# Altium footprint library Switches.PcbLib: 4 footprints
Each footprint in its own frame and in the unit in brackets; x right, y up, seen from the top. Pads: shape width x height; smd on the part's side, far side on the other; paste and mask are expansions set on the pad; w line width, h text height; cw(c..) or ccw(c..) is an arc to the next point about the centre after c.
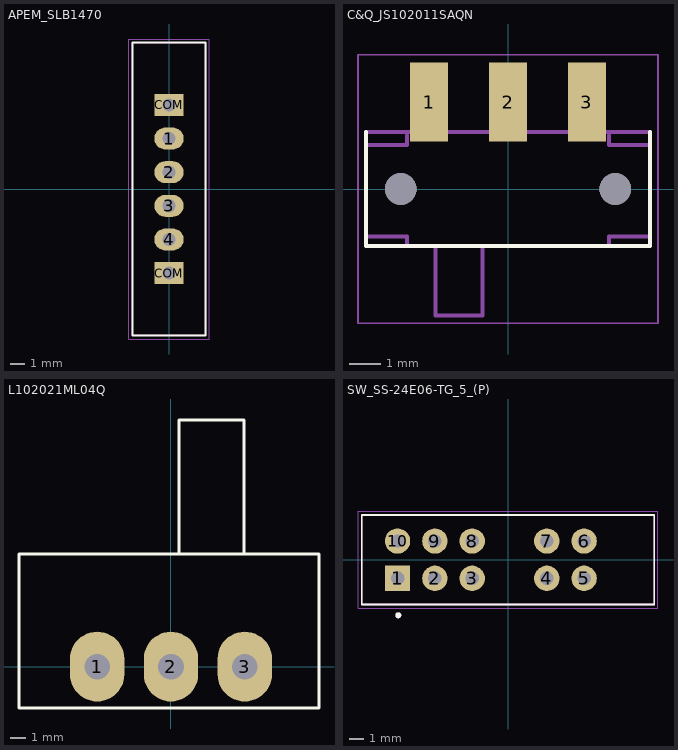
[diagram p0: the footprints below, top view; thin cyan lines are the x and y axes]

## APEM_SLB1470 [mm] "SWITCH SLIDE SP4T 300MA 125V"
pads (6):
  oval 2x1.5 hole 0.9 mask+0.05: 1(0,3.45) 2(0,1.15) 3(0,-1.15) 4(0,-3.45)
  rect 2x1.5 hole 0.9 mask+0.05: COM(0,-5.75) COM(0,5.75)
Top Overlay:
  lines w0.127: -2.5,-10 -2.5,10 2.5,10 2.5,-10 -2.5,-10
Mechanical 1:
  lines w0.1: -2.5,-10 -2.5,10 2.5,10 2.5,-10 -2.5,-10
Mechanical 15:
  lines w0.05: -2.75,-10.25 2.75,-10.25 2.75,10.25 -2.75,10.25 -2.75,-10.25
3D body "User Library-SLB1470.STEP": height 12.55, standoff -2.75, extent -2.525,-10 2.525,10

## C&Q_JS102011SAQN [mm] "SWITCH SLIDE SPDT 300MA 6V"
pads (5):
  rect 1.2x2.5 smd: 1(-2.5,2.75) 2(0,2.75) 3(2.5,2.75)
  round 1 hole 1 unplated: ""(-3.4,0) ""(3.4,0)
Top Overlay:
  lines w0.127: -4.5,1.8 -4.5,-1.8 4.5,-1.8 4.5,1.8
Mechanical 13:
  region: -2.2,1.801 -2.801,1.801 -2.801,3.7 -2.2,3.7
  region: -2.2,1.801 -2.801,1.801 -2.801,3.7 -2.2,3.7
  region: 0.3,1.8 -0.3,1.8 -0.3,3.7 0.3,3.7
  region: 2.8,1.803 2.204,1.803 2.204,3.7 2.8,3.7
  lines w0.127: -4.5,-1.5 -3.2,-1.5 -3.2,-1.8 ; -4.5,1.4 -3.2,1.4 -3.2,1.7 ; -4.5,1.8 4.5,1.8 ; -2.3,-1.8 -2.3,-4 -0.8,-4 -0.8,-1.8 ; 3.2,-1.8 3.2,-1.5 4.5,-1.5 ; 3.2,1.7 3.2,1.4 4.5,1.4
Mechanical 15:
  lines w0.05: -4.75,-4.25 4.75,-4.25 4.75,4.25 -4.75,4.25 -4.75,-4.25
3D body "JS102011SAQN--3DModel-Eagle-1.STEP": height 3.52, standoff -0.78, extent -4.5,-3.75 4.5,3.75

## L102021ML04Q [mm]
pads (3):
  oval 3.5x4.5 hole 1.65: 1(-4.75,0) 2(0,0) 3(4.75,0)
Top Overlay:
  lines w0.2: -6.35,7.239 0.508,7.239 0.508,15.875 4.699,15.875 4.699,7.239 ; -9.779,-2.667 9.525,-2.667 9.525,7.239 -9.779,7.239 -9.779,-2.667
3D body "L102021ML04Q.stp": height 10.48, standoff -3.95, extent -9.651,-4.445 9.653,15.875

## SW_SS-24E06-TG_5_(P) [mm]
pads (10):
  rect 1.7x1.7 hole 0.9: 1(-7.4,-1.25)
  round 1.7 hole 0.9: 2(-4.9,-1.25) 3(-2.4,-1.25) 4(2.6,-1.25) 5(5.1,-1.25) 6(5.1,1.25) 7(2.6,1.25) 8(-2.4,1.25) 9(-4.9,1.25) 10(-7.4,1.25)
Top Overlay:
  circle w0.2: c-7.35,-3.73 r0.1
  lines w0.127: -9.8,-3 9.8,-3 9.8,3 -9.8,3 -9.8,-3
Mechanical 13:
  circle w0.2: c-7.35,-3.73 r0.1
  lines w0.127: -9.8,-3 -9.8,3 ; -9.779,-3 9.8,-3 ; -9.779,3 9.8,3 9.8,-3.048
Mechanical 15:
  lines w0.05: -10.05,-3.25 -10.05,3.25 10.05,3.25 10.05,-3.25 -10.05,-3.25
3D body "SS-24E06-TG 5 -P---3DModel-STEP-56544.STEP": height 10.2, standoff -3.6, extent -9.8,-3 9.8,3